# Altium footprint library PASSIVE_SMD.PCBLIB: 238 footprints (part 11 of 15)
Each footprint in its own frame and in the unit in brackets; x right, y up, seen from the top. Pads: shape width x height; smd on the part's side, far side on the other; paste and mask are expansions set on the pad; w line width, h text height; cw(c..) or ccw(c..) is an arc to the next point about the centre after c.
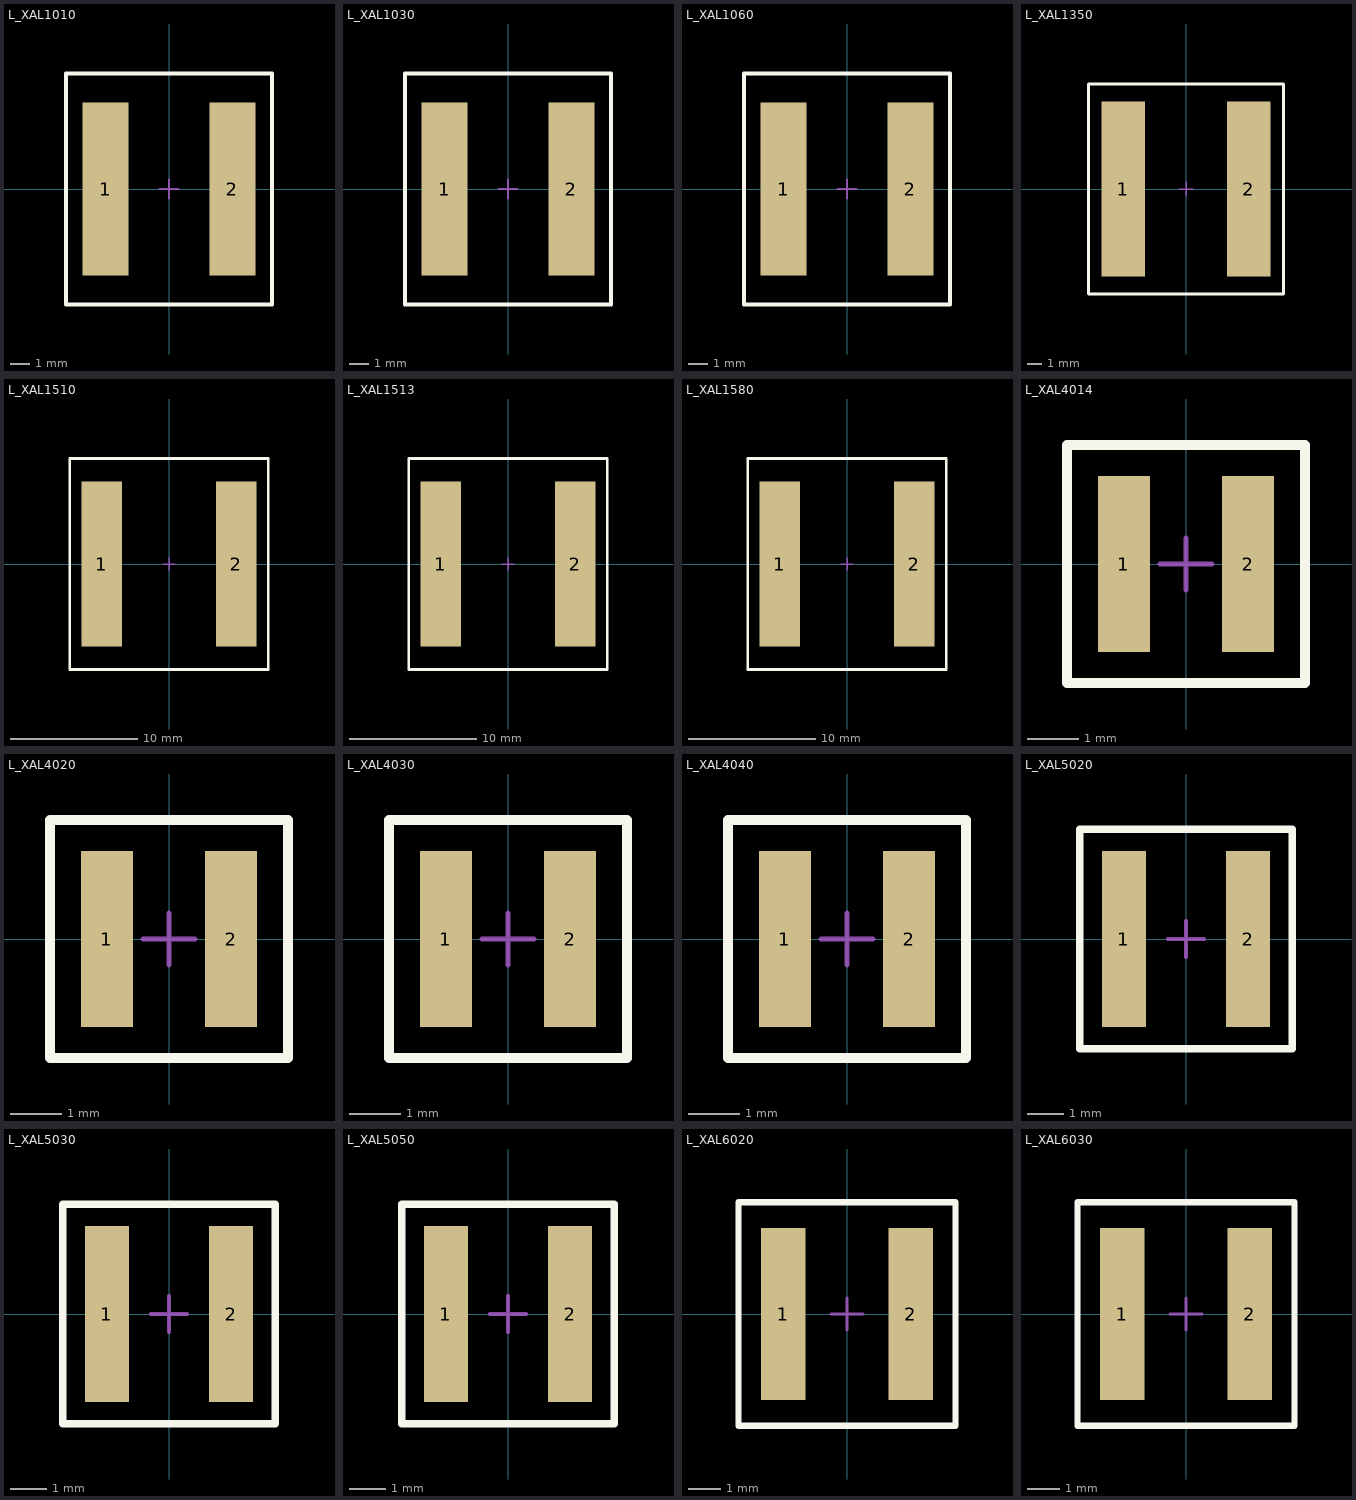
[diagram p10: the footprints below, top view; thin cyan lines are the x and y axes]

## L_XAL1010 [mm] "Inductor, XAL1010, 10.50x11.3x10mm"
height 10
pads (2):
  rect 2.4x9 smd paste-5: 1(-3.3,0) 2(3.3,0)
Top Overlay:
  lines w0.2: -5.35,-6 -5.35,6 5.35,6 5.35,-6 -5.35,-6
Top Paste:
  rectangle: -4.3,0.2 -2.3,4.2
  rectangle: -4.3,-4.2 -2.3,-0.2
  region: 4.3,-0.2 2.3,-0.2 2.3,-4.2 4.3,-4.2
  region: 4.3,4.2 2.3,4.2 2.3,0.2 4.3,0.2
Mechanical 13:
  lines w0.1: -0.5,0 0.5,0 ; 0,-0.5 0,0.5
3D body "Coilcraft-XAL1010.step": height 10, standoff 0, extent -5.25,-5.9 5.25,5.9

## L_XAL1030 [mm] "Inductor, XAL1030, 10.50x11.3x3.1mm"
height 3.1
pads (2):
  rect 2.4x9 smd paste-5: 1(-3.3,0) 2(3.3,0)
Top Overlay:
  lines w0.2: -5.35,-6 -5.35,6 5.35,6 5.35,-6 -5.35,-6
Top Paste:
  rectangle: -4.3,-4.2 -2.3,-0.2
  rectangle: -4.3,0.2 -2.3,4.2
  region: 4.3,-0.2 2.3,-0.2 2.3,-4.2 4.3,-4.2
  region: 4.3,4.2 2.3,4.2 2.3,0.2 4.3,0.2
Mechanical 13:
  lines w0.1: -0.5,0 0.5,0 ; 0,-0.5 0,0.5
3D body "Coilcraft-XAL1030.step": height 3.1, standoff 0, extent -5.25,-5.9 5.25,5.9

## L_XAL1060 [mm] "Inductor, XAL1060, 10.50x11.3x6.0mm"
height 6
pads (2):
  rect 2.4x9 smd paste-5: 1(-3.3,0) 2(3.3,0)
Top Overlay:
  lines w0.2: -5.35,-6 5.35,-6 5.35,6 -5.35,6 -5.35,-6
Top Paste:
  region: 4.3,-0.2 2.3,-0.2 2.3,-4.2 4.3,-4.2
  region: 4.3,4.2 2.3,4.2 2.3,0.2 4.3,0.2
  rectangle: -4.3,-4.2 -2.3,-0.2
  rectangle: -4.3,0.2 -2.3,4.2
Mechanical 13:
  lines w0.1: -0.5,0 0.5,0 ; 0,-0.5 0,0.5
3D body "Coilcraft-XAL1060.step": height 6, standoff 0, extent -5.25,-5.9 5.25,5.9

## L_XAL1350 [mm] "Inductor, XAL1350, 13x14x5mm"
height 3.1
pads (2):
  rect 3x12 smd paste-6: 1(-4.3,0) 2(4.3,0)
Top Overlay:
  lines w0.2: -6.7,-7.2 -6.7,7.2 6.7,7.2 6.7,-7.2 -6.7,-7.2
Top Paste:
  rectangle: -5.6,0.2 -3,2.8
  rectangle: -5.6,3.2 -3,5.8
  rectangle: -5.6,-5.8 -3,-3.2
  rectangle: -5.6,-2.8 -3,-0.2
  region: 5.6,-0.2 3,-0.2 3,-2.8 5.6,-2.8
  region: 5.6,-3.2 3,-3.2 3,-5.8 5.6,-5.8
  region: 5.6,5.8 3,5.8 3,3.2 5.6,3.2
  region: 5.6,2.8 3,2.8 3,0.2 5.6,0.2
Mechanical 13:
  lines w0.1: -0.5,0 0.5,0 ; 0,-0.5 0,0.5
3D body "Coilcraft-XAL1350.step": height 5, standoff 0, extent -6.6,-7.1 6.6,7.1

## L_XAL1510 [mm] "Inductor, XAL1510, 15.2x16.2x11mm"
height 11
pads (2):
  rect 3.2x13 smd paste-7: 1(-5.3,0) 2(5.3,0)
Top Overlay:
  lines w0.2: -7.8,-8.3 -7.8,8.3 7.8,8.3 7.8,-8.3 -7.8,-8.3
Top Paste:
  rectangle: -6.6,-2.8 -4,-0.2
  rectangle: -6.6,-5.8 -4,-3.2
  rectangle: -6.6,3.2 -4,5.8
  rectangle: -6.6,0.2 -4,2.8
  region: 6.6,2.8 4,2.8 4,0.2 6.6,0.2
  region: 6.6,5.8 4,5.8 4,3.2 6.6,3.2
  region: 6.6,-3.2 4,-3.2 4,-5.8 6.6,-5.8
  region: 6.6,-0.2 4,-0.2 4,-2.8 6.6,-2.8
Mechanical 13:
  lines w0.1: -0.5,0 0.5,0 ; 0,-0.5 0,0.5
3D body "Coilcraft-XAL1510-153.step": height 10, standoff 0, extent -7.7,-8.2 7.7,8.2

## L_XAL1513 [mm] "Inductor, XAL1513, 15.2x16.2x13mm"
height 13
pads (2):
  rect 3.2x13 smd paste-7: 1(-5.3,0) 2(5.3,0)
Top Overlay:
  lines w0.2: -7.8,-8.3 7.8,-8.3 7.8,8.3 -7.8,8.3 -7.8,-8.3
Top Paste:
  rectangle: -6.6,-2.8 -4,-0.2
  rectangle: -6.6,-5.8 -4,-3.2
  rectangle: -6.6,3.2 -4,5.8
  rectangle: -6.6,0.2 -4,2.8
  region: 6.6,-0.2 4,-0.2 4,-2.8 6.6,-2.8
  region: 6.6,-3.2 4,-3.2 4,-5.8 6.6,-5.8
  region: 6.6,5.8 4,5.8 4,3.2 6.6,3.2
  region: 6.6,2.8 4,2.8 4,0.2 6.6,0.2
Mechanical 13:
  lines w0.1: -0.5,0 0.5,0 ; 0,-0.5 0,0.5
3D body "Coilcraft-XAL1513-153.step": height 13.2, standoff 0.2, extent -7.7,-8.2 7.7,8.2

## L_XAL1580 [mm] "Inductor, XAL1580, 15.2x16.2x8.2mm"
height 8.2
pads (2):
  rect 3.2x13 smd paste-7: 1(-5.3,0) 2(5.3,0)
Top Overlay:
  lines w0.2: -7.8,-8.3 -7.8,8.3 7.8,8.3 7.8,-8.3 -7.8,-8.3
Top Paste:
  region: 6.6,-0.2 4,-0.2 4,-2.8 6.6,-2.8
  region: 6.6,-3.2 4,-3.2 4,-5.8 6.6,-5.8
  region: 6.6,5.8 4,5.8 4,3.2 6.6,3.2
  region: 6.6,2.8 4,2.8 4,0.2 6.6,0.2
  rectangle: -6.6,-2.8 -4,-0.2
  rectangle: -6.6,-5.8 -4,-3.2
  rectangle: -6.6,3.2 -4,5.8
  rectangle: -6.6,0.2 -4,2.8
Mechanical 13:
  lines w0.1: -0.5,0 0.5,0 ; 0,-0.5 0,0.5
3D body "Coilcraft-XAL1580-102.step": height 8.2, standoff 0, extent -7.7,-8.2 7.7,8.2

## L_XAL4014 [mm] "Inductor, XAL4014, 4.0x4.0x1.4mm"
height 1.4
pads (2):
  rect 1x3.4 smd paste-0.1: 1(-1.2,0) 2(1.2,0)
Top Overlay:
  lines w0.2: -2.3,-2.3 2.3,-2.3 2.3,2.3 -2.3,2.3 -2.3,-2.3
Mechanical 13:
  lines w0.1: -0.5,0 0.5,0 ; 0,-0.5 0,0.5
3D body "Coilcraft-XAL4014.step": height 1.4, standoff 0, extent -2.15,-2.15 2.15,2.15

## L_XAL4020 [mm] "Inductor, XAL4020, 4.0x4.0x2.1mm"
height 2.1
pads (2):
  rect 1x3.4 smd paste-0.1: 1(-1.2,0) 2(1.2,0)
Top Overlay:
  lines w0.2: -2.3,-2.3 2.3,-2.3 2.3,2.3 -2.3,2.3 -2.3,-2.3
Mechanical 13:
  lines w0.1: -0.5,0 0.5,0 ; 0,-0.5 0,0.5
3D body "Coilcraft-XAL4020.step": height 2.1, standoff 0, extent -2.15,-2.15 2.15,2.15

## L_XAL4030 [mm] "Inductor, XAL4030, 4.0x4.0x3.1mm"
height 3.1
pads (2):
  rect 1x3.4 smd paste-0.1: 1(-1.2,0) 2(1.2,0)
Top Overlay:
  lines w0.2: -2.3,-2.3 2.3,-2.3 2.3,2.3 -2.3,2.3 -2.3,-2.3
Mechanical 13:
  lines w0.1: -0.5,0 0.5,0 ; 0,-0.5 0,0.5
3D body "Coilcraft-XAL4030.step": height 3.1, standoff 0, extent -2.15,-2.15 2.15,2.15

## L_XAL4040 [mm] "Inductor, XAL4030, 4.0x4.0x4.1mm"
height 4.1
pads (2):
  rect 1x3.4 smd paste-0.1: 1(-1.2,0) 2(1.2,0)
Top Overlay:
  lines w0.2: -2.3,-2.3 2.3,-2.3 2.3,2.3 -2.3,2.3 -2.3,-2.3
Mechanical 13:
  lines w0.1: -0.5,0 0.5,0 ; 0,-0.5 0,0.5
3D body "Coilcraft-XAL4040.step": height 4.1, standoff 0, extent -2.15,-2.15 2.15,2.15

## L_XAL5020 [mm] "Inductor, XAL5020, 5.3x5.5x2.0mm"
height 2
pads (2):
  rect 1.2x4.8 smd paste-0.1: 1(-1.7,0) 2(1.7,0)
Top Overlay:
  lines w0.2: -2.9,-3 -2.9,3 2.9,3 2.9,-3 -2.9,-3
Mechanical 13:
  lines w0.1: -0.5,0 0.5,0 ; 0,-0.5 0,0.5
3D body "Coilcraft-XAL5020.step": height 2, standoff 0, extent -2.741,-2.84 2.739,2.84

## L_XAL5030 [mm] "Inductor, XAL5030, 5.3x5.5x3.1mm"
height 3.1
pads (2):
  rect 1.2x4.8 smd paste-0.1: 1(-1.7,0) 2(1.7,0)
Top Overlay:
  lines w0.2: -2.9,-3 2.9,-3 2.9,3 -2.9,3 -2.9,-3
Mechanical 13:
  lines w0.1: -0.5,0 0.5,0 ; 0,-0.5 0,0.5
3D body "Coilcraft-XAL5030.step": height 3.1, standoff 0, extent -2.74,-2.84 2.74,2.84

## L_XAL5050 [mm] "Inductor, XAL5050, 5.3x5.5x5.1mm"
height 5.1
pads (2):
  rect 1.2x4.8 smd paste-0.1: 1(-1.7,0) 2(1.7,0)
Top Overlay:
  lines w0.2: -2.9,-3 -2.9,3 2.9,3 2.9,-3 -2.9,-3
Mechanical 13:
  lines w0.1: -0.5,0 0.5,0 ; 0,-0.5 0,0.5
3D body "Coilcraft-XAL5050.step": height 5.1, standoff 0, extent -2.74,-2.84 2.74,2.84

## L_XAL6020 [mm] "Inductor, XAL6020, 6.36x6.56x2.1mm"
height 2.1
pads (2):
  rect 1.4x5.4 smd paste-4: 1(-2,0) 2(2,0)
Top Overlay:
  lines w0.2: -3.4,-3.5 3.4,-3.5 3.4,3.5 -3.4,3.5 -3.4,-3.5
Top Paste:
  rectangle: -2.6,0.2 -1.4,2.6
  rectangle: -2.6,-2.6 -1.4,-0.2
  region: 2.6,-0.2 1.4,-0.2 1.4,-2.6 2.6,-2.6
  region: 2.6,2.6 1.4,2.6 1.4,0.2 2.6,0.2
Mechanical 13:
  lines w0.1: -0.5,0 0.5,0 ; 0,-0.5 0,0.5
3D body "Coilcraft-XAL6020.step": height 2.1, standoff 0, extent -3.28,-3.38 3.28,3.38

## L_XAL6030 [mm] "Inductor, XAL6030, 6.36x6.56x3.1mm"
height 3.1
pads (2):
  rect 1.4x5.4 smd paste-4: 1(-2,0) 2(2,0)
Top Overlay:
  lines w0.2: -3.4,-3.5 -3.4,3.5 3.4,3.5 3.4,-3.5 -3.4,-3.5
Top Paste:
  region: 2.6,-0.2 1.4,-0.2 1.4,-2.6 2.6,-2.6
  region: 2.6,2.6 1.4,2.6 1.4,0.2 2.6,0.2
  rectangle: -2.6,-2.6 -1.4,-0.2
  rectangle: -2.6,0.2 -1.4,2.6
Mechanical 13:
  lines w0.1: -0.5,0 0.5,0 ; 0,-0.5 0,0.5
3D body "Coilcraft-XAL6030.step": height 3.1, standoff 0, extent -3.28,-3.38 3.28,3.38